# EAGLE library part USB_SMD (library 029000100  -  gKEagleLibrary)
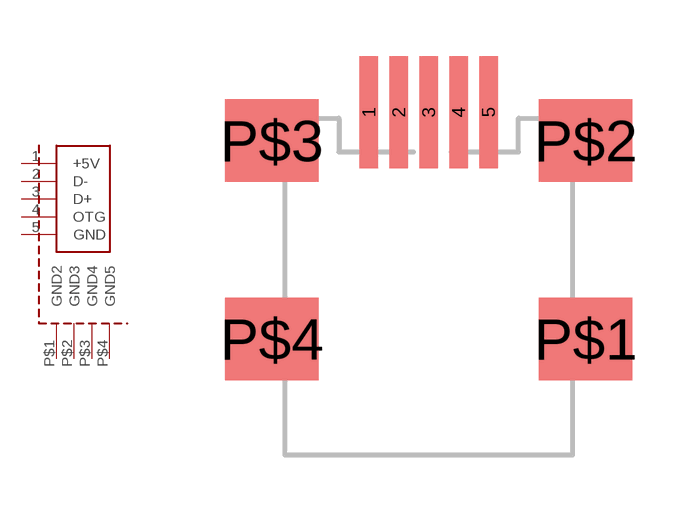
[diagram p40: symbol with the pads of USB_MINI_SMD; footprint USB_MINI_SMD]

Designator prefix -

## USB_SMD  [USB_MINI_SMD]
1  +5V
2  D-
3  D+
4  OTG
5  GND
P$1  GND2
P$2  GND3
P$3  GND4
P$4  GND5

## Footprint USB_MINI_SMD (pad centres in mm)
smd 0.5 x 3: 1 -1.64,4.538; 2 -0.84,4.538; 3 -0.04,4.538; 4 0.76,4.538; 5 1.56,4.538
smd 2.5 x 2.2: P$1 4.16,-1.52; P$2 4.16,3.78; P$3 -4.24,3.78; P$4 -4.24,-1.52